# EAGLE library part HFA1105IBZ (library Intersil_By_element14_Batch_1)
Operational Amplifier
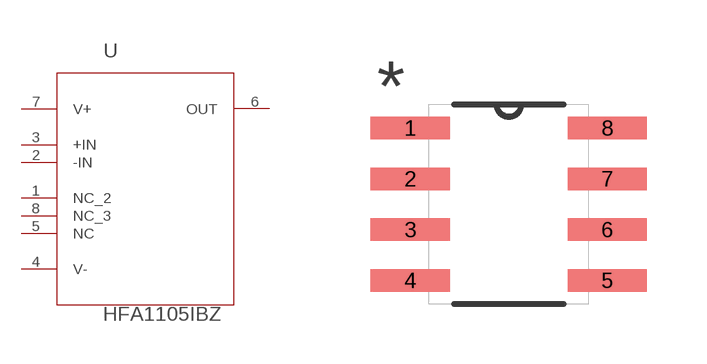
[diagram p108: symbol with the pads of SOIC127P600X175-8N; footprint SOIC127P600X175-8N]

Designator prefix U

## HFA1105IBZ (MPN: HFA1105IBZ; OC_FARNELL: -; OC_NEWARK: 88K4551; PACKAGE: SOIC-8; SUPPLIER: INTERSIL)  [SOIC127P600X175-8N]
1  NC_2  nc
2  -IN  in
3  +IN  in
4  V-  pas
5  NC  nc
6  OUT  out
7  V+  pwr
8  NC_3  nc

## Footprint SOIC127P600X175-8N (pad centres in mm)
smd 1.981 x 0.559: 1 -2.464,1.905; 2 -2.464,0.635; 3 -2.464,-0.635; 4 -2.464,-1.905; 5 2.464,-1.905; 6 2.464,-0.635; 7 2.464,0.635; 8 2.464,1.905